# EAGLE library part 1PEEK07 (library con-odu_med)
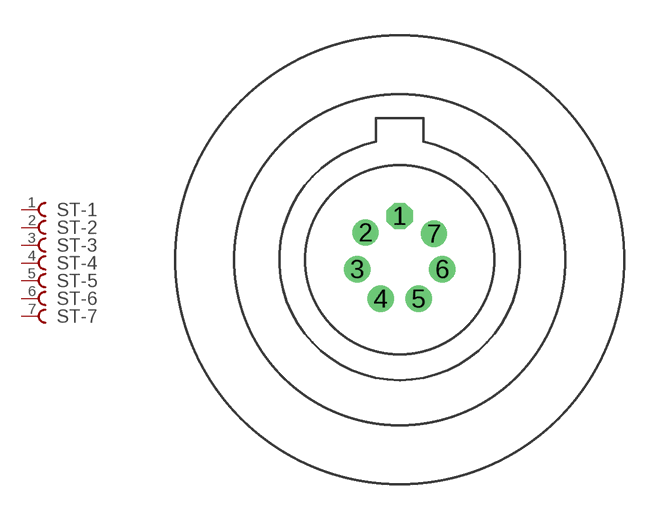
[diagram p1: symbol with the pads of 1PEEK07; footprint 1PEEK07]

Designator prefix ST; gates -1=KONTAKT -2=KONTAKT -3=KONTAKT -4=KONTAKT -5=KONTAKT -6=KONTAKT -7=KONTAKT

## 1PEEK07  [1PEEK07]
1  -1:P$1  pas
2  -2:P$1  pas
3  -3:P$1  pas
4  -4:P$1  pas
5  -5:P$1  pas
6  -6:P$1  pas
7  -7:P$1  pas

## Footprint 1PEEK07 (pad centres in mm)
drill 0.6 octagon: 1 0,1.85
drill 0.6: 2 -1.45,1.15; 3 -1.8,-0.4; 4 -0.8,-1.65; 5 0.8,-1.65; 6 1.8,-0.4; 7 1.45,1.1